# EAGLE library part TPS7A4901DRBR (library My_Library_2)
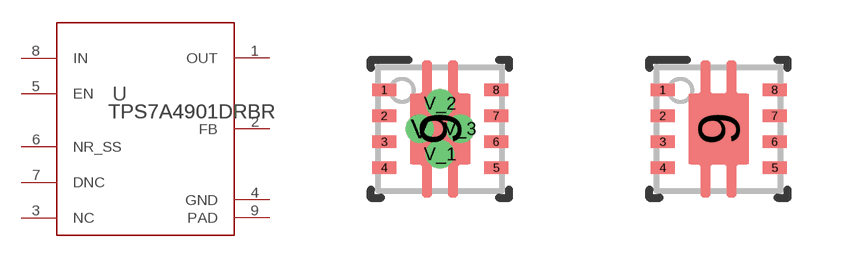
[diagram p12: symbol with the pads of DRB0008A; footprints DRB0008A, DRB0008A_NV]

Designator prefix U

## TPS7A4901DRBR (COPYRIGHT: Copyright (C) 2025 Ultra Librarian. All rights reserved.; MANUFACTURER_PART_NUMBER: TPS7A4901DRBR; MFR_NAME: Texas Instruments)  [DRB0008A]
1  OUT  pwr
2  FB  in
3  NC  pas
4  GND  pwr
5  EN  in
6  NR_SS  in
7  DNC  pas
8  IN  pwr
9  PAD  pwr

## TPS7A4901DRBRDRB0008A_NV (COPYRIGHT: Copyright (C) 2025 Ultra Librarian. All rights reserved.; MANUFACTURER_PART_NUMBER: TPS7A4901DRBR; MFR_NAME: Texas Instruments)  [DRB0008A_NV]
Pads as for DRB0008A

## Footprint DRB0008A (pad centres in mm)
smd 0.6 x 0.31: 1 -1.4,0.975; 2 -1.4,0.325; 3 -1.4,-0.325; 4 -1.4,-0.975; 5 1.4,-0.975; 6 1.4,-0.325; 7 1.4,0.325; 8 1.4,0.975
smd 1.5 x 1.75: 9 0,0
drill 0.203 pad 0.508: V -0.508,0; V_1 0,-0.635; V_2 0,0.635; V_3 0.508,0

## Footprint DRB0008A_NV (pad centres in mm)
smd 0.6 x 0.31: 1 -1.4,0.975; 2 -1.4,0.325; 3 -1.4,-0.325; 4 -1.4,-0.975; 5 1.4,-0.975; 6 1.4,-0.325; 7 1.4,0.325; 8 1.4,0.975
smd 1.5 x 1.75: 9 0,0